# Altium integrated library NSC Switcher.IntLib: 889 symbols (part 21 of 23)
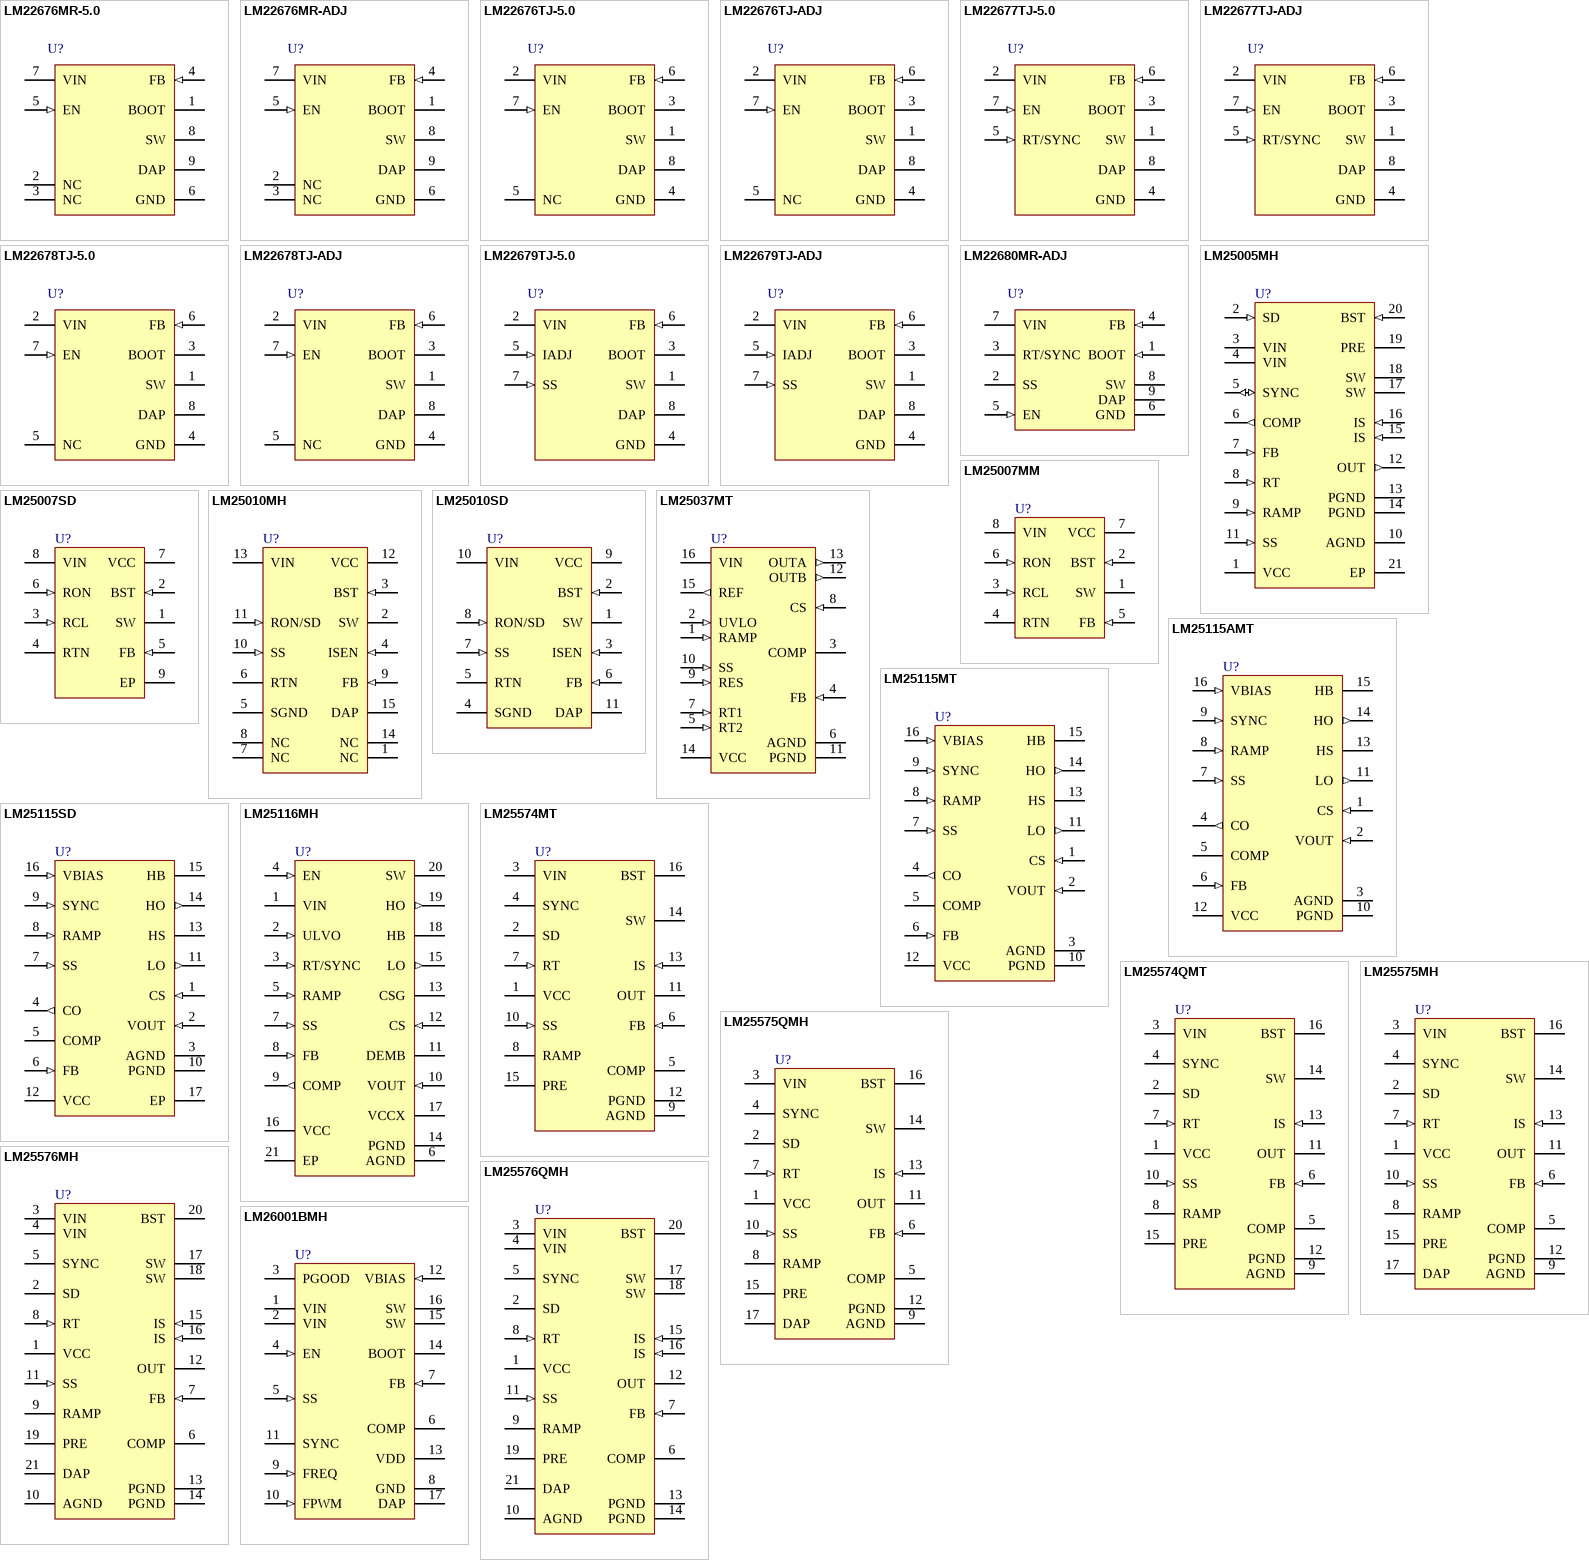
[diagram p47: symbols LM22676MR-5.0 to LM26001BMH]

## LM22676TJ-ADJ
designator U?
3A SIMPLE SWITCHER, Step-Down Voltage Regulator with Precision Enable; PartNumber: LM22676TJ-ADJ; Manufacturer: National Semiconductor; PackageTopMarking: NSUZXYTTE#*LM22676*TJ-ADJ; PowerWise: N; Published: 4-Dec-2008; DatasheetVersion: Oct-2008; PackageVersion: revC, Jan-2008; PackageReference: TJ7A; Publisher: Altium Limited; PackageDescription: Thin TO-263, Molded, 9.85 x 10.16 x 2mm Body, 7 Lead, 1.7mm Pitch, Surface Mount; CompType: Switcher; RoHS: Y; PinCount: 7; DigiKeyPartNumber: LM22676TJ-ADJ-ND; ComponentLink1Description: LM22676 Datasheet; ComponentLink1URL: http://www.national.com/ds/LM/LM22676.pdf; ComponentLink2Description: LM22676 Web Page; ComponentLink2URL: http://www.national.com/pf/LM/LM22676.html; ComponentLink3Description: TJ7A Package Drawing; ComponentLink3URL: http://www.national.com/packaging/folders/tj7a.html
footprint TJ7A_N (D2-PAK, 8-Leads, Body 9.9x10.2mm, Pitch 1.27mm, Lead Span 14mm, IPC Medium Density)
footprint TJ7A_L (D2-PAK, 8-Leads, Body 9.9x10.2mm, Pitch 1.27mm, Lead Span 14mm, IPC High Density)
footprint TJ7A_M (D2-PAK, 8-Leads, Body 9.9x10.2mm, Pitch 1.27mm, Lead Span 14mm, IPC Low Density)
pins: 1 SW (power), 2 VIN (power), 3 BOOT, 4 GND (power), 5 NC, 6 FB (in), 7 EN (in), 8 DAP (power)

## LM22677TJ-5.0
designator U?
5A SIMPLE SWITCHER, Step-Down Voltage Regulator with Synchronization or Adjustable Switching Frequency; PartNumber: LM22677TJ-5.0; Manufacturer: National Semiconductor; PackageTopMarking: NSUZXYTTE#*LM22677*TJ-5.0; PowerWise: N; Published: 4-Dec-2008; DatasheetVersion: Oct-2008; PackageVersion: revC, Jan-2008; PackageReference: TJ7A; Publisher: Altium Limited; PackageDescription: Thin TO-263, Molded, 9.85 x 10.16 x 2mm Body, 7 Lead, 1.7mm Pitch, Surface Mount; CompType: Switcher; RoHS: Y; PinCount: 7; DigiKeyPartNumber: LM22677TJ-5.0-ND; ComponentLink1Description: LM22677 Datasheet; ComponentLink1URL: http://www.national.com/ds/LM/LM22677.pdf; ComponentLink2Description: LM22677 Web Page; ComponentLink2URL: http://www.national.com/pf/LM/LM22677.html; ComponentLink3Description: TJ7A Package Drawing; ComponentLink3URL: http://www.national.com/packaging/folders/tj7a.html
footprint TJ7A_N (D2-PAK, 8-Leads, Body 9.9x10.2mm, Pitch 1.27mm, Lead Span 14mm, IPC Medium Density)
footprint TJ7A_L (D2-PAK, 8-Leads, Body 9.9x10.2mm, Pitch 1.27mm, Lead Span 14mm, IPC High Density)
footprint TJ7A_M (D2-PAK, 8-Leads, Body 9.9x10.2mm, Pitch 1.27mm, Lead Span 14mm, IPC Low Density)
pins: 1 SW (power), 2 VIN (power), 3 BOOT, 4 GND (power), 5 RT/SYNC (in), 6 FB (in), 7 EN (in), 8 DAP (power)

## LM22677TJ-ADJ
designator U?
5A SIMPLE SWITCHER, Step-Down Voltage Regulator with Synchronization or Adjustable Switching Frequency; PartNumber: LM22677TJ-ADJ; Manufacturer: National Semiconductor; PackageTopMarking: NSUZXYTTE#*LM22677*TJ-ADJ; PowerWise: N; Published: 4-Dec-2008; DatasheetVersion: Oct-2008; PackageVersion: revC, Jan-2008; PackageReference: TJ7A; Publisher: Altium Limited; PackageDescription: Thin TO-263, Molded, 9.85 x 10.16 x 2mm Body, 7 Lead, 1.7mm Pitch, Surface Mount; CompType: Switcher; RoHS: Y; PinCount: 7; DigiKeyPartNumber: LM22677TJ-ADJ-ND; ComponentLink1Description: LM22677 Datasheet; ComponentLink1URL: http://www.national.com/ds/LM/LM22677.pdf; ComponentLink2Description: LM22677 Web Page; ComponentLink2URL: http://www.national.com/pf/LM/LM22677.html; ComponentLink3Description: TJ7A Package Drawing; ComponentLink3URL: http://www.national.com/packaging/folders/tj7a.html
footprint TJ7A_N (D2-PAK, 8-Leads, Body 9.9x10.2mm, Pitch 1.27mm, Lead Span 14mm, IPC Medium Density)
footprint TJ7A_L (D2-PAK, 8-Leads, Body 9.9x10.2mm, Pitch 1.27mm, Lead Span 14mm, IPC High Density)
footprint TJ7A_M (D2-PAK, 8-Leads, Body 9.9x10.2mm, Pitch 1.27mm, Lead Span 14mm, IPC Low Density)
pins: 1 SW (power), 2 VIN (power), 3 BOOT, 4 GND (power), 5 RT/SYNC (in), 6 FB (in), 7 EN (in), 8 DAP (power)

## LM22678TJ-5.0
designator U?
5A SIMPLE SWITCHER, Step-Down Voltage Regulator with Precision Enable; PartNumber: LM22678TJ-5.0; Manufacturer: National Semiconductor; PackageTopMarking: NSUZXYTTE#*LM22678*TJ-5.0; PowerWise: N; Published: 4-Dec-2008; DatasheetVersion: Oct-2008; PackageVersion: revC, Jan-2008; PackageReference: TJ7A; Publisher: Altium Limited; PackageDescription: Thin TO-263, Molded, 9.85 x 10.16 x 2mm Body, 7 Lead, 1.7mm Pitch, Surface Mount; CompType: Switcher; RoHS: Y; PinCount: 7; DigiKeyPartNumber: LM22678TJ-5.0-ND; ComponentLink1Description: LM22678 Datasheet; ComponentLink1URL: http://www.national.com/ds/LM/LM22678.pdf; ComponentLink2Description: LM22678 Web Page; ComponentLink2URL: http://www.national.com/pf/LM/LM22678.html; ComponentLink3Description: TJ7A Package Drawing; ComponentLink3URL: http://www.national.com/packaging/folders/tj7a.html
footprint TJ7A_N (D2-PAK, 8-Leads, Body 9.9x10.2mm, Pitch 1.27mm, Lead Span 14mm, IPC Medium Density)
footprint TJ7A_L (D2-PAK, 8-Leads, Body 9.9x10.2mm, Pitch 1.27mm, Lead Span 14mm, IPC High Density)
footprint TJ7A_M (D2-PAK, 8-Leads, Body 9.9x10.2mm, Pitch 1.27mm, Lead Span 14mm, IPC Low Density)
pins: 1 SW (power), 2 VIN (power), 3 BOOT, 4 GND (power), 5 NC, 6 FB (in), 7 EN (in), 8 DAP (power)

## LM22678TJ-ADJ
designator U?
5A SIMPLE SWITCHER, Step-Down Voltage Regulator with Precision Enable; PartNumber: LM22678TJ-ADJ; Manufacturer: National Semiconductor; PackageTopMarking: NSUZXYTTE#*LM22678*TJ-ADJ; PowerWise: N; Published: 4-Dec-2008; DatasheetVersion: Oct-2008; PackageVersion: revC, Jan-2008; PackageReference: TJ7A; Publisher: Altium Limited; PackageDescription: Thin TO-263, Molded, 9.85 x 10.16 x 2mm Body, 7 Lead, 1.7mm Pitch, Surface Mount; CompType: Switcher; RoHS: Y; PinCount: 7; DigiKeyPartNumber: LM22678TJ-ADJ-ND; ComponentLink1Description: LM22678 Datasheet; ComponentLink1URL: http://www.national.com/ds/LM/LM22678.pdf; ComponentLink2Description: LM22678 Web Page; ComponentLink2URL: http://www.national.com/pf/LM/LM22678.html; ComponentLink3Description: TJ7A Package Drawing; ComponentLink3URL: http://www.national.com/packaging/folders/tj7a.html
footprint TJ7A_N (D2-PAK, 8-Leads, Body 9.9x10.2mm, Pitch 1.27mm, Lead Span 14mm, IPC Medium Density)
footprint TJ7A_L (D2-PAK, 8-Leads, Body 9.9x10.2mm, Pitch 1.27mm, Lead Span 14mm, IPC High Density)
footprint TJ7A_M (D2-PAK, 8-Leads, Body 9.9x10.2mm, Pitch 1.27mm, Lead Span 14mm, IPC Low Density)
pins: 1 SW (power), 2 VIN (power), 3 BOOT, 4 GND (power), 5 NC, 6 FB (in), 7 EN (in), 8 DAP (power)

## LM22679TJ-5.0
designator U?
5A SIMPLE SWITCHER, Step-Down Voltage Regulator with Adjustable Soft-Start and Current Limit; PartNumber: LM22679TJ-5.0; Manufacturer: National Semiconductor; PackageTopMarking: NSUZXYTTE#*LM22679*TJ-5.0; PowerWise: N; Published: 4-Dec-2008; DatasheetVersion: Oct-2008; PackageVersion: revC, Jan-2008; PackageReference: TJ7A; Publisher: Altium Limited; PackageDescription: Thin TO-263, Molded, 9.85 x 10.16 x 2mm Body, 7 Lead, 1.7mm Pitch, Surface Mount; CompType: Switcher; RoHS: Y; PinCount: 7; DigiKeyPartNumber: LM22679TJ-5.0-ND; ComponentLink1Description: LM22679 Datasheet; ComponentLink1URL: http://www.national.com/ds/LM/LM22679.pdf; ComponentLink2Description: LM22679 Web Page; ComponentLink2URL: http://www.national.com/pf/LM/LM22679.html; ComponentLink3Description: TJ7A Package Drawing; ComponentLink3URL: http://www.national.com/packaging/folders/tj7a.html
footprint TJ7A_N (D2-PAK, 8-Leads, Body 9.9x10.2mm, Pitch 1.27mm, Lead Span 14mm, IPC Medium Density)
footprint TJ7A_L (D2-PAK, 8-Leads, Body 9.9x10.2mm, Pitch 1.27mm, Lead Span 14mm, IPC High Density)
footprint TJ7A_M (D2-PAK, 8-Leads, Body 9.9x10.2mm, Pitch 1.27mm, Lead Span 14mm, IPC Low Density)
pins: 1 SW (power), 2 VIN (power), 3 BOOT, 4 GND (power), 5 IADJ (in), 6 FB (in), 7 SS (in), 8 DAP (power)

## LM22679TJ-ADJ
designator U?
5A SIMPLE SWITCHER, Step-Down Voltage Regulator with Adjustable Soft-Start and Current Limit; PartNumber: LM22679TJ-ADJ; Manufacturer: National Semiconductor; PackageTopMarking: NSUZXYTTE#*LM22679*TJ-ADJ; PowerWise: N; Published: 4-Dec-2008; DatasheetVersion: Oct-2008; PackageVersion: revC, Jan-2008; PackageReference: TJ7A; Publisher: Altium Limited; PackageDescription: Thin TO-263, Molded, 9.85 x 10.16 x 2mm Body, 7 Lead, 1.7mm Pitch, Surface Mount; CompType: Switcher; RoHS: Y; PinCount: 7; DigiKeyPartNumber: LM22679TJ-ADJ-ND; ComponentLink1Description: LM22679 Datasheet; ComponentLink1URL: http://www.national.com/ds/LM/LM22679.pdf; ComponentLink2Description: LM22679 Web Page; ComponentLink2URL: http://www.national.com/pf/LM/LM22679.html; ComponentLink3Description: TJ7A Package Drawing; ComponentLink3URL: http://www.national.com/packaging/folders/tj7a.html
footprint TJ7A_N (D2-PAK, 8-Leads, Body 9.9x10.2mm, Pitch 1.27mm, Lead Span 14mm, IPC Medium Density)
footprint TJ7A_L (D2-PAK, 8-Leads, Body 9.9x10.2mm, Pitch 1.27mm, Lead Span 14mm, IPC High Density)
footprint TJ7A_M (D2-PAK, 8-Leads, Body 9.9x10.2mm, Pitch 1.27mm, Lead Span 14mm, IPC Low Density)
pins: 1 SW (power), 2 VIN (power), 3 BOOT, 4 GND (power), 5 IADJ (in), 6 FB (in), 7 SS (in), 8 DAP (power)

## LM22680MR-ADJ
designator U?
2A SIMPLE SWITCHER®, Step-Down Voltage Regulator with Features; PartNumber: LM22680MR-ADJ; Manufacturer: National Semiconductor; PackageTopMarking: NSXYTT*L22680*-ADJ; PowerWise: N; Published: 29-May-2009; DatasheetVersion: Dec-2008; PackageVersion: revB, Dec-2007; PackageReference: MRA08B; Publisher: Altium Limited; PackageDescription: Molded, PSOP .193 x .154 x .058in, 8 Lead, .050in Pitch, Large DAP; CompType: Switcher; RoHS: Y; PinCount: 8; DigiKeyPartNumber: LM22680MR-ADJ-ND; Code_JEDEC: MS-012-AA; ComponentLink1Description: LM22680 Datasheet; ComponentLink1URL: http://www.national.com/ds/LM/LM22680.pdf; ComponentLink2Description: LM22680 Web Page; ComponentLink2URL: http://www.national.com/pf/LM/LM22680.html; ComponentLink3Description: MRA08B Package Page; ComponentLink3URL: http://www.national.com/packaging/folders/mra08b.html
footprint MRA08B_N (SOIC, 8-Leads, Body 4.9x3.9mm, Pitch 1.27mm, Exposed Pad, IPC Medium Density)
footprint MRA08B_L (SOIC, 8-Leads, Body 4.9x3.9mm, Pitch 1.27mm, Exposed Pad, IPC High Density)
footprint MRA08B_M (SOIC, 8-Leads, Body 4.9x3.9mm, Pitch 1.27mm, Exposed Pad, IPC Low Density)
pins: 1 BOOT (in), 2 SS, 3 RT/SYNC, 4 FB (in), 5 EN (in), 6 GND (power), 7 VIN (power), 8 SW, 9 DAP

## LM25005MH
designator U?
42V, 2.5A Step-Down Switching Regulator; PartNumber: LM25005MH; Manufacturer: National Semiconductor; CompType: Switcher; PackageTopMarking: NSUZXYTT*LM25005*MH; Published: 4-Dec-2008; DatasheetVersion: Mar-2006; PackageVersion: revC, Jul-2006; PackageReference: MXA20A; Publisher: Altium Limited; PackageDescription: Molded TSSOP, Jedec, 6.5 x 4.4 x 0.9mm Body, 20 Lead, 0.65mm Pitch, Exposed Pad; RoHS: Y; PinCount: 20; DigiKeyPartNumber: LM25005MH-ND; Code_JEDEC: MO-153-ACT; ComponentLink1Description: LM25005 Datasheet; ComponentLink1URL: http://www.national.com/ds/LM/LM25005.pdf; ComponentLink2Description: LM25005 Web Page; ComponentLink2URL: http://www.national.com/pf/LM/LM25005.html; ComponentLink3Description: MXA20A Package Drawing; ComponentLink3URL: http://www.national.com/packaging/folders/mxa20a.html
footprint MXA20A_N (TSOP, 20-Leads, Body 6.5x4.4mm, Pitch 0.65mm, Exposed Pad, IPC Medium Density)
footprint MXA20A_L (TSOP, 20-Leads, Body 6.5x4.4mm, Pitch 0.65mm, Exposed Pad, IPC High Density)
footprint MXA20A_M (TSOP, 20-Leads, Body 6.5x4.4mm, Pitch 0.65mm, Exposed Pad, IPC Low Density)
pins: 1 VCC (power), 2 SD (in), 3 VIN (power), 4 VIN (power), 5 SYNC (io), 6 COMP (out), 7 FB (in), 8 RT (in), 9 RAMP (in), 10 AGND (power), 11 SS (in), 12 OUT (out), 13 PGND (power), 14 PGND (power), 15 IS (in), 16 IS (in), 17 SW (power), 18 SW (power), 19 PRE (oc), 20 BST (in), 21 EP (power)

## LM25007MM
designator U?
42V, 0.5A Step-Down Switching Regulator; PartNumber: LM25007MM; Manufacturer: National Semiconductor; CompType: Switcher; PackageTopMarking: ZXTT*SLYB; Published: 4-Dec-2008; DatasheetVersion: Feb-2008; PackageVersion: revF, Apr-2008; PackageReference: MUA08A; Publisher: Altium Limited; PackageDescription: MINI SOIC, .118 x .118 x .034in, 8 Lead, .0256in Pitch; RoHS: Y; PinCount: 8; DigiKeyPartNumber: LM25007MMCT-ND; Code_JEDEC: MO-187-AA; ComponentLink1Description: LM25007 Datasheet; ComponentLink1URL: http://www.national.com/ds/LM/LM25007.pdf; ComponentLink2Description: LM25007 Web Page; ComponentLink2URL: http://www.national.com/pf/LM/LM25007.html; ComponentLink3Description: MUA08A Package Drawing; ComponentLink3URL: http://www.national.com/packaging/folders/mua08a.html
footprint MUA08A_N (TSOP, 8-Leads, Body 3x3mm, Pitch 0.65mm, IPC Medium Density)
footprint MUA08A_L (TSOP, 8-Leads, Body 3x3mm, Pitch 0.65mm, IPC High Density)
footprint MUA08A_M (TSOP, 8-Leads, Body 3x3mm, Pitch 0.65mm, IPC Low Density)
pins: 1 SW (power), 2 BST (in), 3 RCL (in), 4 RTN (power), 5 FB (in), 6 RON (in), 7 VCC (power), 8 VIN (power)

## LM25007SD
designator U?
42V, 0.5A Step-Down Switching Regulator; PartNumber: LM25007SD; Manufacturer: National Semiconductor; CompType: Switcher; PackageTopMarking: NS*UZXYTT*25007SD; Published: 4-Dec-2008; DatasheetVersion: Feb-2008; PackageVersion: revA, Jun-2003; PackageReference: SDC08A; Publisher: Altium Limited; PackageDescription: LLP, Plastic, Dual, 4 x 4 x 0.8mm Body, 8 Lead, 0.8mm Pitch, No Pullback; RoHS: Y; PinCount: 8; DigiKeyPartNumber: LM25007SDCT-ND; ComponentLink1Description: LM25007 Datasheet; ComponentLink1URL: http://www.national.com/ds/LM/LM25007.pdf; ComponentLink2Description: LM25007 Web Page; ComponentLink2URL: http://www.national.com/pf/LM/LM25007.html; ComponentLink3Description: SDC08A Package Drawing; ComponentLink3URL: http://www.national.com/packaging/folders/sdc08a.html
footprint SDC08A (SON, 8-Leads, Body 4x4mm, Pitch 0.8mm, NSC Recommended)
pins: 1 SW (power), 2 BST (in), 3 RCL (in), 4 RTN (power), 5 FB (in), 6 RON (in), 7 VCC (power), 8 VIN (power), 9 EP (power)

## LM25010MH
designator U?
42V, 1.0A Step-Down Switching Regulator; PartNumber: LM25010MH; Manufacturer: National Semiconductor; CompType: Switcher; PackageTopMarking: NSUZXYTT*L25010*MH; Published: 4-Dec-2008; DatasheetVersion: Feb-2006; PackageVersion: revA, Feb-2003; PackageReference: MXA14A; Publisher: Altium Limited; PackageDescription: Molded TSSOP, JEDEC, Exposed Pad, 5.0 x 4.4 x 0.9mm Body, 14 Lead, 0.65mm Pitch; RoHS: Y; PinCount: 14; DigiKeyPartNumber: LM25010MH-ND; Code_JEDEC: MO-153-ABT-1; ComponentLink1Description: LM25010 Datasheet; ComponentLink1URL: http://www.national.com/ds/LM/LM25010.pdf; ComponentLink2Description: LM25010 Web Page; ComponentLink2URL: http://www.national.com/pf/LM/LM25010.html; ComponentLink3Description: MXA14A Package Drawing; ComponentLink3URL: http://www.national.com/packaging/folders/mxa14a.html
footprint MXA14A_N (TSOP, 14-Leads, Body 5x4.4mm, Pitch 0.65mm, Exposed Pad, IPC Medium Density)
footprint MXA14A_L (TSOP, 14-Leads, Body 5x4.4mm, Pitch 0.65mm, Exposed Pad, IPC High Density)
footprint MXA14A_M (TSOP, 14-Leads, Body 5x4.4mm, Pitch 0.65mm, Exposed Pad, IPC Low Density)
pins: 1 NC, 2 SW (power), 3 BST (in), 4 ISEN (in), 5 SGND (power), 6 RTN (power), 7 NC, 8 NC, 9 FB (in), 10 SS (in), 11 RON/SD (in), 12 VCC (power), 13 VIN (power), 14 NC, 15 DAP (power)

## LM25010SD
designator U?
42V, 1.0A Step-Down Switching Regulator; PartNumber: LM25010SD; Manufacturer: National Semiconductor; CompType: Switcher; PackageTopMarking: NS*UZXYTT*25010SD; Published: 4-Dec-2008; DatasheetVersion: Feb-2006; PackageVersion: revA, May-2003; PackageReference: SDC10A; Publisher: Altium Limited; PackageDescription: LLP, Plastic, Dual, 4 x 4 x 0.8mm Body, 10 Lead, 0.8mm Pitch, No Pullback; RoHS: Y; PinCount: 10; DigiKeyPartNumber: LM25010SDCT-ND; ComponentLink1Description: LM25010 Datasheet; ComponentLink1URL: http://www.national.com/ds/LM/LM25010.pdf; ComponentLink2Description: LM25010 Web Page; ComponentLink2URL: http://www.national.com/pf/LM/LM25010.html; ComponentLink3Description: SDC10A Package Drawing; ComponentLink3URL: http://www.national.com/packaging/folders/sdc10a.html
footprint SDC10A (SON, 10-Leads, Body 4x4 mm, Pitch 0.8mm, NSC Recommended)
pins: 1 SW (power), 2 BST (in), 3 ISEN (in), 4 SGND (power), 5 RTN (power), 6 FB (in), 7 SS (in), 8 RON/SD (in), 9 VCC (power), 10 VIN (power), 11 DAP (power)

## LM25037MT
designator U?
Dual-Mode PWM Controller With Alternating Outputs; PartNumber: LM25037MT; Manufacturer: National Semiconductor; CompType: Switcher; PackageTopMarking: NSUZXYTT*L25037*MT; Published: 4-Dec-2008; DatasheetVersion: Jul-2008; PackageVersion: revD, Jun-2003; PackageReference: MTC16; Publisher: Altium Limited; PackageDescription: Molded TSSOP, Jedec, 5 x 4.4 x 0.9mm Body, 16 Lead, 0.65mm Pitch; RoHS: Y; PinCount: 16; DigiKeyPartNumber: LM25037MT-ND; Code_JEDEC: MO-153-AB; ComponentLink1Description: LM25037 Datasheet; ComponentLink1URL: http://www.national.com/ds/LM/LM25037.pdf; ComponentLink2Description: LM25037 Web Page; ComponentLink2URL: http://www.national.com/pf/LM/LM25037.html; ComponentLink3Description: MTC16 Package Drawing; ComponentLink3URL: http://www.national.com/packaging/folders/mtc16.html
footprint MTC16_N (TSOP, 16-Leads, Body 5x4.4mm, Pitch 0.65mm, IPC Medium Density)
footprint MTC16_L (TSOP, 16-Leads, Body 5x4.4mm, Pitch 0.65mm, IPC High Density)
footprint MTC16_M (TSOP, 16-Leads, Body 5x4.4mm, Pitch 0.65mm, IPC Low Density)
pins: 1 RAMP (in), 2 UVLO (in), 3 COMP, 4 FB (in), 5 RT2 (in), 6 AGND (power), 7 RT1 (in), 8 CS (in), 9 RES (in), 10 SS (in), 11 PGND (power), 12 OUTB (out), 13 OUTA (out), 14 VCC (power), 15 REF (out), 16 VIN (power)

## LM25115AMT
designator U?
Secondary Side Post Regulator/DC-DC Converter with Power-Up/Power-Down Tracking; PartNumber: LM25115AMT; Manufacturer: National Semiconductor; CompType: Switcher; PackageTopMarking: NSUZXYTT*L25115*AMT; Published: 4-Dec-2008; DatasheetVersion: Nov-2005; PackageVersion: revD, Jun-2003; PackageReference: MTC16; Publisher: Altium Limited; PackageDescription: Molded TSSOP, Jedec, 5 x 4.4 x 0.9mm Body, 16 Lead, 0.65mm Pitch; RoHS: Y; PinCount: 16; DigiKeyPartNumber: LM25115AMT-ND; Code_JEDEC: MO-153-AB; ComponentLink1Description: LM25115A Datasheet; ComponentLink1URL: http://www.national.com/ds/LM/LM25115A.pdf; ComponentLink2Description: LM25115A Web Page; ComponentLink2URL: http://www.national.com/pf/LM/LM25115A.html; ComponentLink3Description: MTC16 Package Drawing; ComponentLink3URL: http://www.national.com/packaging/folders/mtc16.html
footprint MTC16_N (TSOP, 16-Leads, Body 5x4.4mm, Pitch 0.65mm, IPC Medium Density)
footprint MTC16_L (TSOP, 16-Leads, Body 5x4.4mm, Pitch 0.65mm, IPC High Density)
footprint MTC16_M (TSOP, 16-Leads, Body 5x4.4mm, Pitch 0.65mm, IPC Low Density)
pins: 1 CS (in), 2 VOUT (in), 3 AGND (power), 4 CO (out), 5 COMP, 6 FB (in), 7 SS (in), 8 RAMP (in), 9 SYNC (in), 10 PGND (power), 11 LO (out), 12 VCC (power), 13 HS, 14 HO (out), 15 HB, 16 VBIAS (in)

## LM25115MT
designator U?
Secondary Side Post Regulator Controller; PartNumber: LM25115MT; Manufacturer: National Semiconductor; CompType: Switcher; PackageTopMarking: NSUZXYTT*L25115*MT; Published: 4-Dec-2008; DatasheetVersion: Nov-2005; PackageVersion: revD, Jun-2003; PackageReference: MTC16; Publisher: Altium Limited; PackageDescription: Molded TSSOP, Jedec, 5 x 4.4 x 0.9mm Body, 16 Lead, 0.65mm Pitch; RoHS: Y; PinCount: 16; DigiKeyPartNumber: LM25115MT-ND; Code_JEDEC: MO-153-AB; ComponentLink1Description: LM25115 Datasheet; ComponentLink1URL: http://www.national.com/ds/LM/LM25115.pdf; ComponentLink2Description: LM25115 Web Page; ComponentLink2URL: http://www.national.com/pf/LM/LM25115.html; ComponentLink3Description: MTC16 Package Drawing; ComponentLink3URL: http://www.national.com/packaging/folders/mtc16.html
footprint MTC16_N (TSOP, 16-Leads, Body 5x4.4mm, Pitch 0.65mm, IPC Medium Density)
footprint MTC16_L (TSOP, 16-Leads, Body 5x4.4mm, Pitch 0.65mm, IPC High Density)
footprint MTC16_M (TSOP, 16-Leads, Body 5x4.4mm, Pitch 0.65mm, IPC Low Density)
pins: 1 CS (in), 2 VOUT (in), 3 AGND (power), 4 CO (out), 5 COMP, 6 FB (in), 7 SS (in), 8 RAMP (in), 9 SYNC (in), 10 PGND (power), 11 LO (out), 12 VCC (power), 13 HS, 14 HO (out), 15 HB, 16 VBIAS (in)

## LM25115SD
designator U?
Secondary Side Post Regulator Controller; PartNumber: LM25115SD; Manufacturer: National Semiconductor; CompType: Switcher; PackageTopMarking: NS*UZXYTT*L25115; Published: 4-Dec-2008; DatasheetVersion: Nov-2005; PackageVersion: revA, May-2003; PackageReference: SDA16A; Publisher: Altium Limited; PackageDescription: LLP, Plastic, Dual, 5 x 5 x 0.8mm Body,16 Lead, 0.5mm Pitch, No Pullback; RoHS: Y; PinCount: 16; DigiKeyPartNumber: LM25115SDCT-ND; ComponentLink1Description: LM25115 Datasheet; ComponentLink1URL: http://www.national.com/ds/LM/LM25115.pdf; ComponentLink2Description: LM25115 Web Page; ComponentLink2URL: http://www.national.com/pf/LM/LM25115.html; ComponentLink3Description: SDA16A Package Drawing; ComponentLink3URL: http://www.national.com/packaging/folders/sda16a.html
footprint SDA16A (SON, 16-Leads, Body 5x5mm, Pitch 0.5mm, NSC Recommended)
pins: 1 CS (in), 2 VOUT (in), 3 AGND (power), 4 CO (out), 5 COMP, 6 FB (in), 7 SS (in), 8 RAMP (in), 9 SYNC (in), 10 PGND (power), 11 LO (out), 12 VCC (power), 13 HS, 14 HO (out), 15 HB, 16 VBIAS (in), 17 EP (power)

## LM25116MH
designator U?
Wide Range Synchronous Buck Controller; PartNumber: LM25116MH; Manufacturer: National Semiconductor; CompType: Switcher; PackageTopMarking: NSUZXYTT*LM25116*MH; Published: 4-Dec-2008; DatasheetVersion: Apr-2007; PackageVersion: revC, Jul-2006; PackageReference: MXA20A; Publisher: Altium Limited; PackageDescription: Molded TSSOP, Jedec, 6.5 x 4.4 x 0.9mm Body, 20 Lead, 0.65mm Pitch, Exposed Pad; RoHS: Y; PinCount: 20; DigiKeyPartNumber: LM25116MH-ND; Code_JEDEC: MO-153-ACT; ComponentLink1Description: LM25116 Datasheet; ComponentLink1URL: http://www.national.com/ds/LM/LM25116.pdf; ComponentLink2Description: LM25116 Web Page; ComponentLink2URL: http://www.national.com/pf/LM/LM25116.html; ComponentLink3Description: MXA20A Package Drawing; ComponentLink3URL: http://www.national.com/packaging/folders/mxa20a.html
footprint MXA20A_N (TSOP, 20-Leads, Body 6.5x4.4mm, Pitch 0.65mm, Exposed Pad, IPC Medium Density)
footprint MXA20A_L (TSOP, 20-Leads, Body 6.5x4.4mm, Pitch 0.65mm, Exposed Pad, IPC High Density)
footprint MXA20A_M (TSOP, 20-Leads, Body 6.5x4.4mm, Pitch 0.65mm, Exposed Pad, IPC Low Density)
pins: 1 VIN (power), 2 ULVO (in), 3 RT/SYNC (in), 4 EN (in), 5 RAMP (in), 6 AGND (power), 7 SS (in), 8 FB (in), 9 COMP (out), 10 VOUT (in), 11 DEMB, 12 CS (in), 13 CSG, 14 PGND (power), 15 LO (out), 16 VCC (power), 17 VCCX (power), 18 HB, 19 HO (out), 20 SW (power), 21 EP (power)

## LM25574MT
designator U?
SIMPLE SWITCHER 42V, 0.5A Step-Down Switching Regulator; PartNumber: LM25574MT; Manufacturer: National Semiconductor; PackageTopMarking: NSUZXYTT*L25574*MT; PowerWise: Y; Published: 4-Dec-2008; DatasheetVersion: Mar-2009; PackageVersion: revD, Jun-2003; PackageReference: MTC16; Publisher: Altium Limited; PackageDescription: Molded TSSOP, Jedec, 5 x 4.4 x 0.9mm Body, 16 Lead, 0.65mm Pitch; CompType: Switcher; RoHS: Y; PinCount: 16; DigiKeyPartNumber: LM25574MT-ND; Code_JEDEC: MO-153-AB; ComponentLink1Description: LM25574 Datasheet; ComponentLink1URL: http://www.national.com/ds/LM/LM25574.pdf; ComponentLink2Description: LM25574 Web Page; ComponentLink2URL: http://www.national.com/pf/LM/LM25574.html; ComponentLink3Description: MTC16 Package Page; ComponentLink3URL: http://www.national.com/packaging/folders/mtc16.html
footprint MTC16_N (TSOP, 16-Leads, Body 5x4.4mm, Pitch 0.65mm, IPC Medium Density)
footprint MTC16_L (TSOP, 16-Leads, Body 5x4.4mm, Pitch 0.65mm, IPC High Density)
footprint MTC16_M (TSOP, 16-Leads, Body 5x4.4mm, Pitch 0.65mm, IPC Low Density)
pins: 1 VCC (power), 2 SD, 3 VIN (power), 4 SYNC, 5 COMP, 6 FB (in), 7 RT (in), 8 RAMP, 9 AGND (power), 10 SS (in), 11 OUT (power), 12 PGND (power), 13 IS (in), 14 SW (power), 15 PRE (oc), 16 BST

## LM25574QMT
designator U?
SIMPLE SWITCHER® 42V, 0.5A Step-Down Switching Regulator; PartNumber: LM25574QMT; Manufacturer: National Semiconductor; PackageTopMarking: NSUZXYTT*L25574*QMT; PowerWise: N; Published: 29-May-2009; DatasheetVersion: Mar-2009; PackageVersion: revD, Jun-2003; PackageReference: MTC16; Publisher: Altium Limited; PackageDescription: Molded TSSOP, Jedec, 5 x 4.4 x 0.9mm Body, 16 Lead, 0.65mm Pitch; CompType: Switcher; RoHS: Y; PinCount: 16; Code_JEDEC: MO-153-AB; ComponentLink1Description: LM25574 Datasheet; ComponentLink1URL: http://www.national.com/ds/LM/LM25574.pdf; ComponentLink2Description: LM25574 Web Page; ComponentLink2URL: http://www.national.com/pf/LM/LM25574.html; ComponentLink3Description: MTC16 Package Page; ComponentLink3URL: http://www.national.com/packaging/folders/mtc16.html
footprint MTC16_N (TSOP, 16-Leads, Body 5x4.4mm, Pitch 0.65mm, IPC Medium Density)
footprint MTC16_L (TSOP, 16-Leads, Body 5x4.4mm, Pitch 0.65mm, IPC High Density)
footprint MTC16_M (TSOP, 16-Leads, Body 5x4.4mm, Pitch 0.65mm, IPC Low Density)
pins: 1 VCC (power), 2 SD, 3 VIN (power), 4 SYNC, 5 COMP, 6 FB (in), 7 RT (in), 8 RAMP, 9 AGND (power), 10 SS (in), 11 OUT (power), 12 PGND (power), 13 IS (in), 14 SW (power), 15 PRE (oc), 16 BST

## LM25575MH
designator U?
SIMPLE SWITCHER 42V, 1.5A Step-Down Switching Regulator; PartNumber: LM25575MH; Manufacturer: National Semiconductor; PackageTopMarking: NSUZXYTT*L25575*MH; PowerWise: Y; Published: 4-Dec-2008; DatasheetVersion: Mar-2009; PackageVersion: revA, Apr-2003; PackageReference: MXA16A; Publisher: Altium Limited; PackageDescription: Molded TSSOP, Jedec, Exposed Pad, 5.0 x 4.4 x 0.9mm Body,16 Lead, 0.65mm Pitch; CompType: Switcher; RoHS: O; PinCount: 16; DigiKeyPartNumber: LM25575MH-ND; Code_JEDEC: MO-153-ABT; ComponentLink1Description: LM25575 Datasheet; ComponentLink1URL: http://www.national.com/ds/LM/LM25575.pdf; ComponentLink2Description: LM25575 Web Page; ComponentLink2URL: http://www.national.com/pf/LM/LM25575.html; ComponentLink3Description: MXA16A Package Page; ComponentLink3URL: http://www.national.com/packaging/folders/mxa16a.html
footprint MXA16A_N (TSOP, 16-Leads, Body 5x4.4mm, Pitch 0.65mm, Exposed Pad, IPC Medium Density)
footprint MXA16A_L (TSOP, 16-Leads, Body 5x4.4mm, Pitch 0.65mm, Exposed Pad, IPC High Density)
footprint MXA16A_M (TSOP, 16-Leads, Body 5x4.4mm, Pitch 0.65mm, Exposed Pad, IPC Low Density)
pins: 1 VCC (power), 2 SD, 3 VIN (power), 4 SYNC, 5 COMP, 6 FB (in), 7 RT (in), 8 RAMP, 9 AGND (power), 10 SS (in), 11 OUT (power), 12 PGND (power), 13 IS (in), 14 SW (power), 15 PRE (oc), 16 BST, 17 DAP (power)

## LM25575QMH
designator U?
SIMPLE SWITCHER® 42V, 1.5A Step-Down Switching Regulator; PartNumber: LM25575QMH; Manufacturer: National Semiconductor; PackageTopMarking: NSUZXYTT*L25575*QMH; PowerWise: N; Published: 29-May-2009; DatasheetVersion: Mar-2009; PackageVersion: revA, Apr-2003; PackageReference: MXA16A; Publisher: Altium Limited; PackageDescription: Molded TSSOP, Jedec, Exposed Pad, 5.0 x 4.4 x 0.9mm Body,16 Lead, 0.65mm Pitch; CompType: Switcher; RoHS: Y; PinCount: 16; Code_JEDEC: MO-153-ABT; ComponentLink1Description: LM25575 Datasheet; ComponentLink1URL: http://www.national.com/ds/LM/LM25575.pdf; ComponentLink2Description: LM25575 Web Page; ComponentLink2URL: http://www.national.com/pf/LM/LM25575.html; ComponentLink3Description: MXA16A Package Page; ComponentLink3URL: http://www.national.com/packaging/folders/mxa16a.html
footprint MXA16A_N (TSOP, 16-Leads, Body 5x4.4mm, Pitch 0.65mm, Exposed Pad, IPC Medium Density)
footprint MXA16A_L (TSOP, 16-Leads, Body 5x4.4mm, Pitch 0.65mm, Exposed Pad, IPC High Density)
footprint MXA16A_M (TSOP, 16-Leads, Body 5x4.4mm, Pitch 0.65mm, Exposed Pad, IPC Low Density)
pins: 1 VCC (power), 2 SD, 3 VIN (power), 4 SYNC, 5 COMP, 6 FB (in), 7 RT (in), 8 RAMP, 9 AGND (power), 10 SS (in), 11 OUT (power), 12 PGND (power), 13 IS (in), 14 SW (power), 15 PRE (oc), 16 BST, 17 DAP (power)

## LM25576MH
designator U?
SIMPLE SWITCHER 42V, 3A Step-Down Switching Regulator; PartNumber: LM25576MH; Manufacturer: National Semiconductor; PackageTopMarking: NSUZXYTT*LM25576*MH; PowerWise: Y; Published: 4-Dec-2008; DatasheetVersion: Mar-2009; PackageVersion: revC, Jul-2006; PackageReference: MXA20A; Publisher: Altium Limited; PackageDescription: Molded TSSOP, Jedec, 6.5 x 4.4 x 0.9mm Body, 20 Lead, 0.65mm Pitch, Exposed Pad; CompType: Switcher; RoHS: O; PinCount: 20; DigiKeyPartNumber: LM25576MH-ND; Code_JEDEC: MO-153-ACT; ComponentLink1Description: LM25576 Datasheet; ComponentLink1URL: http://www.national.com/ds/LM/LM25576.pdf; ComponentLink2Description: LM25576 Web Page; ComponentLink2URL: http://www.national.com/pf/LM/LM25576.html; ComponentLink3Description: MXA20A Package Page; ComponentLink3URL: http://www.national.com/packaging/folders/mxa20a.html
footprint MXA20A_N (TSOP, 20-Leads, Body 6.5x4.4mm, Pitch 0.65mm, Exposed Pad, IPC Medium Density)
footprint MXA20A_L (TSOP, 20-Leads, Body 6.5x4.4mm, Pitch 0.65mm, Exposed Pad, IPC High Density)
footprint MXA20A_M (TSOP, 20-Leads, Body 6.5x4.4mm, Pitch 0.65mm, Exposed Pad, IPC Low Density)
pins: 1 VCC (power), 2 SD, 3 VIN (power), 4 VIN (power), 5 SYNC, 6 COMP, 7 FB (in), 8 RT (in), 9 RAMP, 10 AGND (power), 11 SS (in), 12 OUT (power), 13 PGND (power), 14 PGND (power), 15 IS (in), 16 IS (in), 17 SW (power), 18 SW (power), 19 PRE (oc), 20 BST, 21 DAP (power)

## LM25576QMH
designator U?
SIMPLE SWITCHER® 42V, 3A Step-Down Switching Regulator; PartNumber: LM25576QMH; Manufacturer: National Semiconductor; PackageTopMarking: NSUZXYTT*LM25576*QMH; PowerWise: N; Published: 29-May-2009; DatasheetVersion: Mar-2009; PackageVersion: revC, Jul-2006; PackageReference: MXA20A; Publisher: Altium Limited; PackageDescription: Molded TSSOP, Jedec, 6.5 x 4.4 x 0.9mm Body, 20 Lead, 0.65mm Pitch, Exposed Pad; CompType: Switcher; RoHS: Y; PinCount: 20; Code_JEDEC: MO-153-ACT; ComponentLink1Description: LM25576 Datasheet; ComponentLink1URL: http://www.national.com/ds/LM/LM25576.pdf; ComponentLink2Description: LM25576 Web Page; ComponentLink2URL: http://www.national.com/pf/LM/LM25576.html; ComponentLink3Description: MXA20A Package Page; ComponentLink3URL: http://www.national.com/packaging/folders/mxa20a.html
footprint MXA20A_N (TSOP, 20-Leads, Body 6.5x4.4mm, Pitch 0.65mm, Exposed Pad, IPC Medium Density)
footprint MXA20A_L (TSOP, 20-Leads, Body 6.5x4.4mm, Pitch 0.65mm, Exposed Pad, IPC High Density)
footprint MXA20A_M (TSOP, 20-Leads, Body 6.5x4.4mm, Pitch 0.65mm, Exposed Pad, IPC Low Density)
pins: 1 VCC (power), 2 SD, 3 VIN (power), 4 VIN (power), 5 SYNC, 6 COMP, 7 FB (in), 8 RT (in), 9 RAMP, 10 AGND (power), 11 SS (in), 12 OUT (power), 13 PGND (power), 14 PGND (power), 15 IS (in), 16 IS (in), 17 SW (power), 18 SW (power), 19 PRE (oc), 20 BST, 21 DAP (power)

## LM26001BMH
designator U?
1.5A Switching Regulator with High Efficiency Sleep Mode; PartNumber: LM26001BMH; Manufacturer: National Semiconductor; CompType: Switcher; PackageTopMarking: NSUZXYTT*L26001*BMH; PowerWise: Y; Published: 4-Dec-2008; DatasheetVersion: May-2008; PackageVersion: revA, Apr-2003; PackageReference: MXA16A; Publisher: Altium Limited; PackageDescription: Molded TSSOP, Jedec, Exposed Pad, 5.0 x 4.4 x 0.9mm Body,16 Lead, 0.65mm Pitch; RoHS: Y; PinCount: 16; DigiKeyPartNumber: LM26001BMH-ND; Code_JEDEC: MO-153-ABT; ComponentLink1Description: LM26001B Datasheet; ComponentLink1URL: http://www.national.com/ds/LM/LM26001B.pdf; ComponentLink2Description: LM26001B Web Page; ComponentLink2URL: http://www.national.com/pf/LM/LM26001B.html; ComponentLink3Description: MXA16A Package Page; ComponentLink3URL: http://www.national.com/packaging/folders/mxa16a.html
footprint MXA16A_N (TSOP, 16-Leads, Body 5x4.4mm, Pitch 0.65mm, Exposed Pad, IPC Medium Density)
footprint MXA16A_L (TSOP, 16-Leads, Body 5x4.4mm, Pitch 0.65mm, Exposed Pad, IPC High Density)
footprint MXA16A_M (TSOP, 16-Leads, Body 5x4.4mm, Pitch 0.65mm, Exposed Pad, IPC Low Density)
pins: 1 VIN (power), 2 VIN (power), 3 PGOOD (oc), 4 EN (in), 5 SS (in), 6 COMP, 7 FB (in), 8 GND (power), 9 FREQ (in), 10 FPWM (in), 11 SYNC, 12 VBIAS (in), 13 VDD (power), 14 BOOT, 15 SW (power), 16 SW (power), 17 DAP (power)

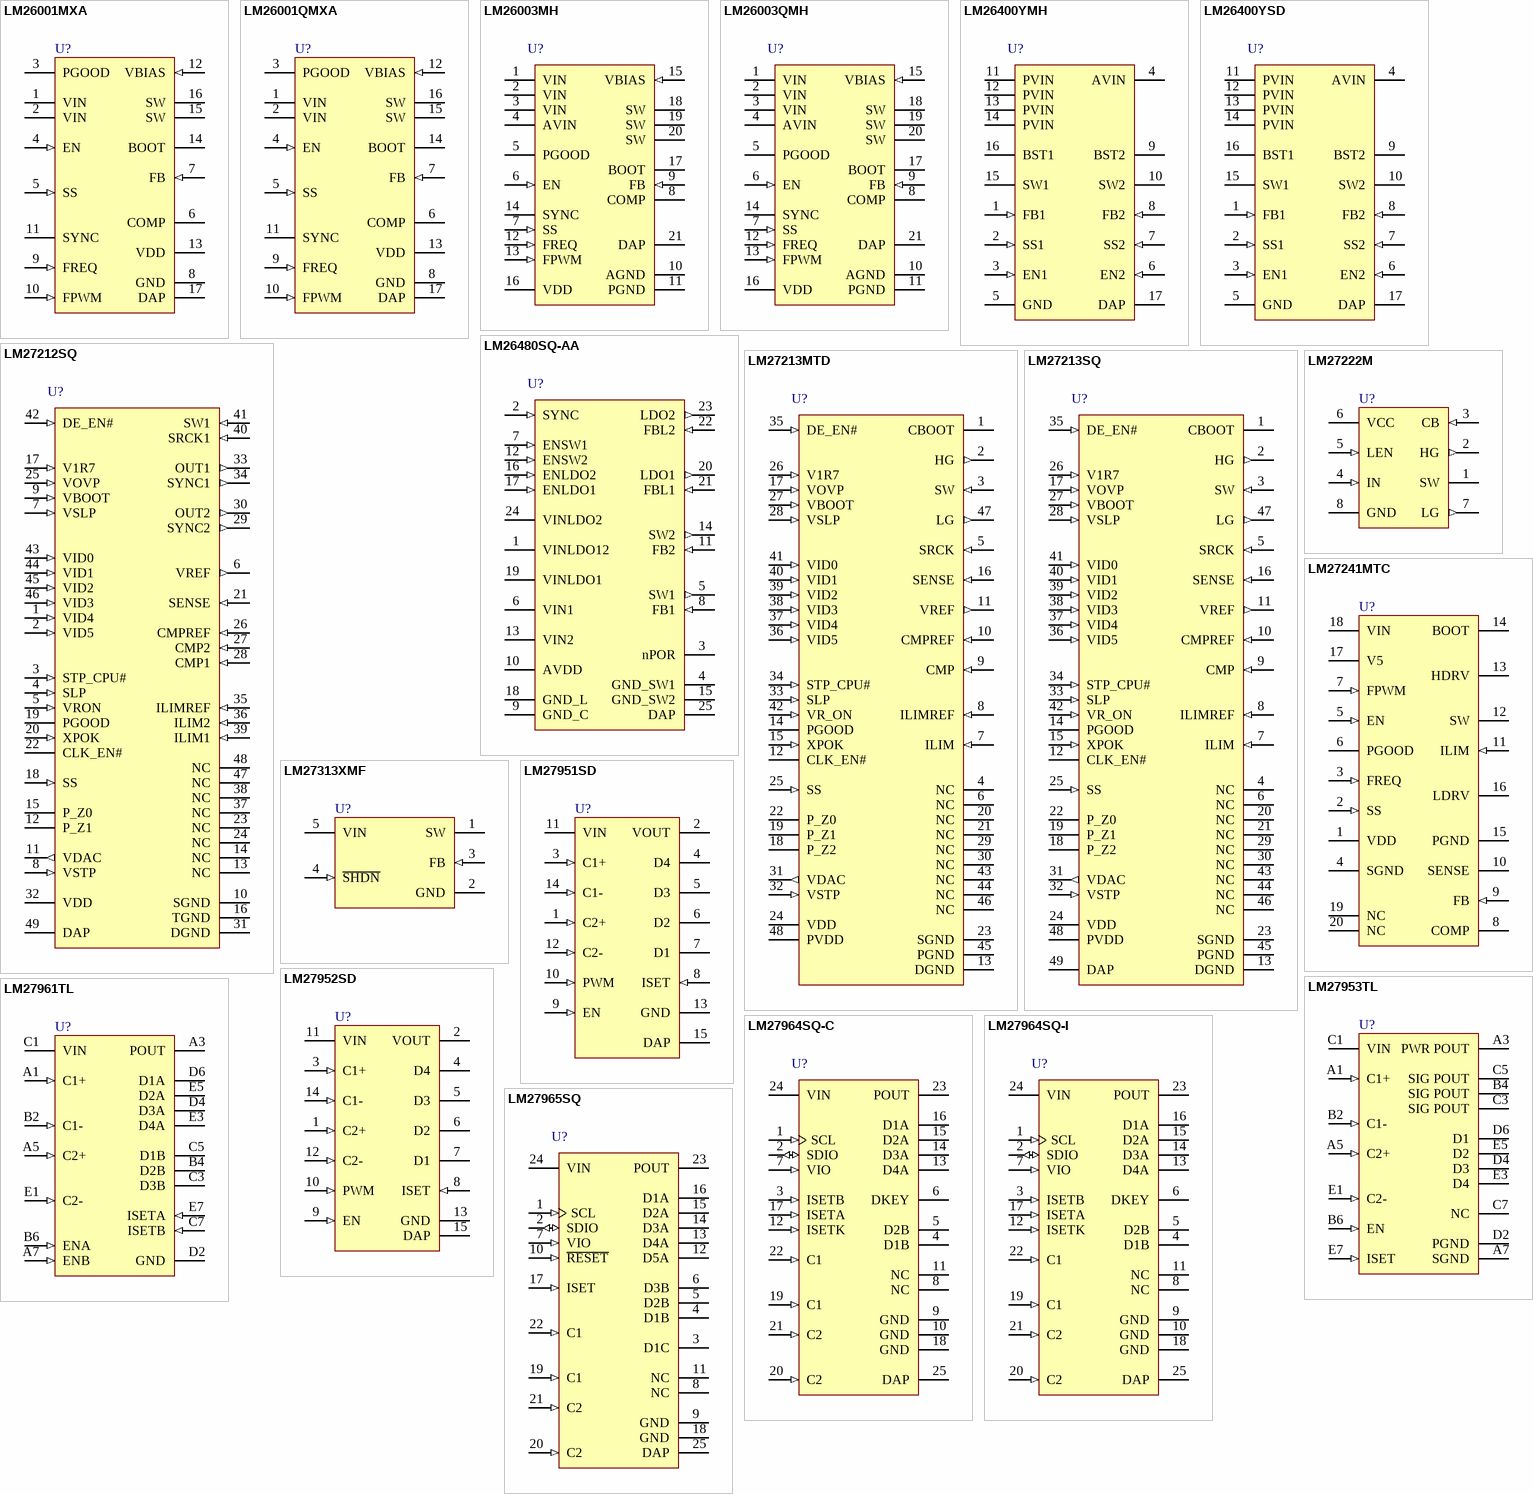
[diagram p25: symbols LM26001MXA to LM27965SQ]

## LM26001MXA
designator U?
1.5A Switching Regulator with High Efficiency Sleep Mode; PartNumber: LM26001MXA; Manufacturer: National Semiconductor; CompType: Switcher; PackageTopMarking: NSUZXYTT*L26001*MXA; PowerWise: Y; Published: 4-Dec-2008; DatasheetVersion: Apr-2009; PackageVersion: revA, Apr-2003; PackageReference: MXA16A; Publisher: Altium Limited; PackageDescription: Molded TSSOP, Jedec, Exposed Pad, 5.0 x 4.4 x 0.9mm Body,16 Lead, 0.65mm Pitch; RoHS: Y; PinCount: 16; DigiKeyPartNumber: LM26001MXA-ND; Code_JEDEC: MO-153-ABT; ComponentLink1Description: LM26001 Datasheet; ComponentLink1URL: http://www.national.com/ds/LM/LM26001.pdf; ComponentLink2Description: LM26001 Web Page; ComponentLink2URL: http://www.national.com/pf/LM/LM26001.html; ComponentLink3Description: MXA16A Package Page; ComponentLink3URL: http://www.national.com/packaging/folders/mxa16a.html
footprint MXA16A_N (TSOP, 16-Leads, Body 5x4.4mm, Pitch 0.65mm, Exposed Pad, IPC Medium Density)
footprint MXA16A_L (TSOP, 16-Leads, Body 5x4.4mm, Pitch 0.65mm, Exposed Pad, IPC High Density)
footprint MXA16A_M (TSOP, 16-Leads, Body 5x4.4mm, Pitch 0.65mm, Exposed Pad, IPC Low Density)
pins: 1 VIN (power), 2 VIN (power), 3 PGOOD (oc), 4 EN (in), 5 SS (in), 6 COMP, 7 FB (in), 8 GND (power), 9 FREQ (in), 10 FPWM (in), 11 SYNC, 12 VBIAS (in), 13 VDD (power), 14 BOOT, 15 SW (power), 16 SW (power), 17 DAP (power)

## LM26001QMXA
designator U?
1.5A Switching Regulator with High Efficiency Sleep Mode; PartNumber: LM26001QMXA; Manufacturer: National Semiconductor; CompType: Switcher; PackageTopMarking: NSUZXYTT*L26001*QMXA; PowerWise: N; Published: 29-May-2009; DatasheetVersion: Apr-2009; PackageVersion: revA, Apr-2003; PackageReference: MXA16A; Publisher: Altium Limited; PackageDescription: Molded TSSOP, Jedec, Exposed Pad, 5.0 x 4.4 x 0.9mm Body,16 Lead, 0.65mm Pitch; RoHS: Y; PinCount: 16; Code_JEDEC: MO-153-ABT; ComponentLink1Description: LM26001 Datasheet; ComponentLink1URL: http://www.national.com/ds/LM/LM26001.pdf; ComponentLink2Description: LM26001 Web Page; ComponentLink2URL: http://www.national.com/pf/LM/LM26001.html; ComponentLink3Description: MXA16A Package Page; ComponentLink3URL: http://www.national.com/packaging/folders/mxa16a.html
footprint MXA16A_N (TSOP, 16-Leads, Body 5x4.4mm, Pitch 0.65mm, Exposed Pad, IPC Medium Density)
footprint MXA16A_L (TSOP, 16-Leads, Body 5x4.4mm, Pitch 0.65mm, Exposed Pad, IPC High Density)
footprint MXA16A_M (TSOP, 16-Leads, Body 5x4.4mm, Pitch 0.65mm, Exposed Pad, IPC Low Density)
pins: 1 VIN (power), 2 VIN (power), 3 PGOOD (oc), 4 EN (in), 5 SS (in), 6 COMP, 7 FB (in), 8 GND (power), 9 FREQ (in), 10 FPWM (in), 11 SYNC, 12 VBIAS (in), 13 VDD (power), 14 BOOT, 15 SW (power), 16 SW (power), 17 DAP (power)

## LM26003MH
designator U?
3A Switching Regulator with High Efficiency Sleep Mode; PartNumber: LM26003MH; Manufacturer: National Semiconductor; CompType: Switcher; PackageTopMarking: NSUZXYTT*LM26003*MH; PowerWise: Y; Published: 4-Dec-2008; DatasheetVersion: Mar-2009; PackageVersion: revC, Jul-2006; PackageReference: MXA20A; Publisher: Altium Limited; PackageDescription: Molded TSSOP, Jedec, 6.5 x 4.4 x 0.9mm Body, 20 Lead, 0.65mm Pitch, Exposed Pad; RoHS: Y; PinCount: 20; DigiKeyPartNumber: LM26003MH/NOPB-ND; Code_JEDEC: MO-153-ACT; ComponentLink1Description: LM26003 Datasheet; ComponentLink1URL: http://www.national.com/ds/LM/LM26003.pdf; ComponentLink2Description: LM26003 Web Page; ComponentLink2URL: http://www.national.com/pf/LM/LM26003.html; ComponentLink3Description: MXA20A Package Drawing; ComponentLink3URL: http://www.national.com/packaging/folders/mxa20a.html
footprint MXA20A_N (TSOP, 20-Leads, Body 6.5x4.4mm, Pitch 0.65mm, Exposed Pad, IPC Medium Density)
footprint MXA20A_L (TSOP, 20-Leads, Body 6.5x4.4mm, Pitch 0.65mm, Exposed Pad, IPC High Density)
footprint MXA20A_M (TSOP, 20-Leads, Body 6.5x4.4mm, Pitch 0.65mm, Exposed Pad, IPC Low Density)
pins: 1 VIN (power), 2 VIN (power), 3 VIN (power), 4 AVIN (power), 5 PGOOD (oc), 6 EN (in), 7 SS (in), 8 COMP, 9 FB (in), 10 AGND (power), 11 PGND (power), 12 FREQ (in), 13 FPWM (in), 14 SYNC, 15 VBIAS (in), 16 VDD (power), 17 BOOT, 18 SW (power), 19 SW (power), 20 SW (power), 21 DAP (power)

## LM26003QMH
designator U?
3A Switching Regulator with High Efficiency Sleep Mode; PartNumber: LM26003QMH; Manufacturer: National Semiconductor; CompType: Switcher; PackageTopMarking: NSUZXYTT*LM26003*QMH; PowerWise: N; Published: 29-May-2009; DatasheetVersion: Mar-2009; PackageVersion: revC, Jul-2006; PackageReference: MXA20A; Publisher: Altium Limited; PackageDescription: Molded TSSOP, Jedec, 6.5 x 4.4 x 0.9mm Body, 20 Lead, 0.65mm Pitch, Exposed Pad; RoHS: Y; PinCount: 20; Code_JEDEC: MO-153-ACT; ComponentLink1Description: LM26003 Datasheet; ComponentLink1URL: http://www.national.com/ds/LM/LM26003.pdf; ComponentLink2Description: LM26003 Web Page; ComponentLink2URL: http://www.national.com/pf/LM/LM26003.html; ComponentLink3Description: MXA20A Package Page; ComponentLink3URL: http://www.national.com/packaging/folders/mxa20a.html
footprint MXA20A_N (TSOP, 20-Leads, Body 6.5x4.4mm, Pitch 0.65mm, Exposed Pad, IPC Medium Density)
footprint MXA20A_L (TSOP, 20-Leads, Body 6.5x4.4mm, Pitch 0.65mm, Exposed Pad, IPC High Density)
footprint MXA20A_M (TSOP, 20-Leads, Body 6.5x4.4mm, Pitch 0.65mm, Exposed Pad, IPC Low Density)
pins: 1 VIN (power), 2 VIN (power), 3 VIN (power), 4 AVIN (power), 5 PGOOD (oc), 6 EN (in), 7 SS (in), 8 COMP, 9 FB (in), 10 AGND (power), 11 PGND (power), 12 FREQ (in), 13 FPWM (in), 14 SYNC, 15 VBIAS (in), 16 VDD (power), 17 BOOT, 18 SW (power), 19 SW (power), 20 SW (power), 21 DAP (power)

## LM26400YMH
designator U?
Dual 2A, 500kHz Wide Input Range Buck Regulator; PartNumber: LM26400YMH; Manufacturer: National Semiconductor; CompType: Switcher; PackageTopMarking: NSUZXYTT*L26400*YMH; PowerWise: N; Published: 4-Dec-2008; DatasheetVersion: Aug-2007; PackageVersion: revA, Apr-2003; PackageReference: MXA16A; Publisher: Altium Limited; PackageDescription: Molded TSSOP, Jedec, Exposed Pad, 5.0 x 4.4 x 0.9mm Body,16 Lead, 0.65mm Pitch; RoHS: Y; PinCount: 16; DigiKeyPartNumber: LM26400YMH-ND; Code_JEDEC: MO-153-ABT; ComponentLink1Description: LM26400Y Datasheet; ComponentLink1URL: http://www.national.com/ds/LM/LM26400Y.pdf; ComponentLink2Description: LM26400Y Web Page; ComponentLink2URL: http://www.national.com/pf/LM/LM26400Y.html; ComponentLink3Description: MXA16A Package Page; ComponentLink3URL: http://www.national.com/packaging/folders/mxa16a.html
footprint MXA16A_N (TSOP, 16-Leads, Body 5x4.4mm, Pitch 0.65mm, Exposed Pad, IPC Medium Density)
footprint MXA16A_L (TSOP, 16-Leads, Body 5x4.4mm, Pitch 0.65mm, Exposed Pad, IPC High Density)
footprint MXA16A_M (TSOP, 16-Leads, Body 5x4.4mm, Pitch 0.65mm, Exposed Pad, IPC Low Density)
pins: 1 FB1 (in), 2 SS1 (in), 3 EN1 (in), 4 AVIN (power), 5 GND (power), 6 EN2 (in), 7 SS2 (in), 8 FB2 (in), 9 BST2, 10 SW2 (power), 11 PVIN (power), 12 PVIN (power), 13 PVIN (power), 14 PVIN (power), 15 SW1 (power), 16 BST1, 17 DAP (power)

## LM26400YSD
designator U?
Dual 2A, 500kHz Wide Input Range Buck Regulator; PartNumber: LM26400YSD; Manufacturer: National Semiconductor; CompType: Switcher; PackageTopMarking: NS*UZXYTT*L26400Y; PowerWise: N; Published: 4-Dec-2008; DatasheetVersion: Aug-2007; PackageVersion: revA, May-2003; PackageReference: SDA16A; Publisher: Altium Limited; PackageDescription: LLP, Plastic, Dual, 5 x 5 x 0.8mm Body,16 Lead, 0.5mm Pitch, No Pullback; RoHS: Y; PinCount: 16; DigiKeyPartNumber: LM26400YSDCT-ND; ComponentLink1Description: LM26400Y Datasheet; ComponentLink1URL: http://www.national.com/ds/LM/LM26400Y.pdf; ComponentLink2Description: LM26400Y Web Page; ComponentLink2URL: http://www.national.com/pf/LM/LM26400Y.html; ComponentLink3Description: SDA16A Package Page; ComponentLink3URL: http://www.national.com/packaging/folders/sda16a.html
footprint SDA16A (SON, 16-Leads, Body 5x5mm, Pitch 0.5mm, NSC Recommended)
pins: 1 FB1 (in), 2 SS1 (in), 3 EN1 (in), 4 AVIN (power), 5 GND (power), 6 EN2 (in), 7 SS2 (in), 8 FB2 (in), 9 BST2, 10 SW2 (power), 11 PVIN (power), 12 PVIN (power), 13 PVIN (power), 14 PVIN (power), 15 SW1 (power), 16 BST1, 17 DAP (power)

## LM26480SQ-AA
designator U?
Externally Programmable Dual High-Current Step-Down DC/DC and Dual Linear Regulators; PartNumber: LM26480SQ-AA; Manufacturer: National Semiconductor; CompType: Switcher; PackageTopMarking: NS*UZXYTT*26480AA; Published: 4-Dec-2008; DatasheetVersion: Sep-2008; PackageVersion: revB, Aug-2003; PackageReference: SQA24A; Publisher: Altium Limited; PackageDescription: LLP, Plastic, Quad, 4 x 4 x 0.8mm Body, 24 Lead, 0.5mm Pitch, No Pullback; RoHS: Y; PinCount: 24; DigiKeyPartNumber: LM26480SQ-AAEV-ND; Code_JEDEC: MO-220-WGGD-6; ComponentLink1Description: LM26480 Datasheet; ComponentLink1URL: http://www.national.com/ds/LM/LM26480.pdf; ComponentLink2Description: LM26480 Web Page; ComponentLink2URL: http://www.national.com/pf/LM/LM26480.html; ComponentLink3Description: SQA24A Package Drawing; ComponentLink3URL: http://www.national.com/packaging/folders/sqa24a.html
footprint SQA24A (QFN, 24-Leads, Body 4x4mm, Pitch 0.5mm, NSC Recommended)
pins: 1 VINLDO12 (power) "Analog Power for Internal Functions (VREF, BIAS, I2C, Logic)", 2 SYNC (in) "Frequency Synchronization pin.", 3 nPOR (oc) "nPOR Power on reset pin for both Buck1 and Buck 2.", 4 GND_SW1 (power) "Buck1 NMOS Power Ground", 5 SW1 (out) "Buck1 switcher output pin", 6 VIN1 (power) "Power in from either DC source or Battery to Buck1", 7 ENSW1 (in) "Enable Pin for Buck1 switcher, a logic HIGH enables Buck1. Pin cannot be left floating.", 8 FB1 (in) "Buck1 input feedback terminal", 9 GND_C (power) "Non-switching core ground pin", 10 AVDD (power) "Analog Power for Buck converters", 11 FB2 (in) "Buck2 input feedback terminal", 12 ENSW2 (in) "Enable Pin for Buck2 switcher, a logic HIGH enables Buck2. Pin cannot be left floating.", 13 VIN2 (power) "Power in from either DC source or Battery to Buck2", 14 SW2 (out) "Buck2 switcher output pin", 15 GND_SW2 (power) "Buck2 NMOS", 16 ENLDO2 (in) "LDO2 enable pin, a logic HIGH enables LDO2. Pin cannot be left floating.", 17 ENLDO1 (in) "LDO1 enable pin, a logic HIGH enables LDO1. Pin cannot be left floating.", 18 GND_L (power) "LDO ground", 19 VINLDO1 (power) "Power in from either DC source or battery to LDO1", 20 LDO1 (out) "LDO1 Output", 21 FBL1 (in) "LDO1 Feedback Terminal", 22 FBL2 (in) "LDO2 Feedback Terminal", 23 LDO2 (out) "LDO Output", 24 VINLDO2 (power) "Power in from either DC source or battery to LDO2.", 25 DAP (power)

## LM27212SQ
designator U?
Two-Phase Current-Mode Hysteretic Buck Controller; PartNumber: LM27212SQ; Manufacturer: National Semiconductor; CompType: Switcher; PackageTopMarking: NS*UZXYTT*27212SQ; Published: 4-Dec-2008; DatasheetVersion: Mar-2006; PackageVersion: revA, May-2003; PackageReference: SQA48A; Publisher: Altium Limited; PackageDescription: LLP, Plastic, Quad, 7 x 7 x 0.8mm Body, 48 Lead, 0.5mm Pitch, No Pullback; RoHS: Y; PinCount: 48; DigiKeyPartNumber: LM27212SQCT-ND; Code_JEDEC: MO-220-WKKD-2; ComponentLink1Description: LM27212 Datasheet; ComponentLink1URL: http://www.national.com/ds/LM/LM27212.pdf; ComponentLink2Description: LM27212 Web Page; ComponentLink2URL: http://www.national.com/pf/LM/LM27212.html; ComponentLink3Description: SQA48A Package Drawing; ComponentLink3URL: http://www.national.com/packaging/folders/sqa48a.html
footprint SQA48A (QFN, 48-Leads, Body 7x7mm, Pitch 0.5mm, NSC Recommended)
pins: 1 VID4 (in), 2 VID5 (in), 3 STP_CPU# (in), 4 SLP (in), 5 VRON (in), 6 VREF (out), 7 VSLP (in), 8 VSTP (in), 9 VBOOT (in), 10 SGND (power), 11 VDAC (out), 12 P_Z1, 13 NC, 14 NC, 15 P_Z0, 16 TGND (power), 17 V1R7 (in), 18 SS (in), 19 PGOOD (oc), 20 XPOK (in), 21 SENSE (in), 22 CLK_EN# (oc), 23 NC, 24 NC, 25 VOVP (in), 26 CMPREF (in), 27 CMP2 (in), 28 CMP1 (in), 29 SYNC2 (out), 30 OUT2 (out), 31 DGND (power), 32 VDD (power), 33 OUT1 (out), 34 SYNC1 (out), 35 ILIMREF (in), 36 ILIM2 (in), 37 NC, 38 NC, 39 ILIM1 (in), 40 SRCK1 (in), 41 SW1 (in), 42 DE_EN# (in), 43 VID0 (in), 44 VID1 (in), 45 VID2 (in), 46 VID3 (in), 47 NC, 48 NC, 49 DAP (power)

## LM27213MTD
designator U?
Single Phase Hysteretic Buck Controller; PartNumber: LM27213MTD; Manufacturer: National Semiconductor; CompType: Switcher; PackageTopMarking: NSUZXYTT*27213MTD; Published: 4-Dec-2008; DatasheetVersion: Feb-2006; PackageVersion: revE, Apr-2003; PackageReference: MTD48; Publisher: Altium Limited; PackageDescription: Molded TSSOP, Jedec, 12.5 x 6.1 x 0.9mm Body, 48 Lead, 0.50mm Pitch; RoHS: Y; PinCount: 48; DigiKeyPartNumber: LM27213MTD-ND; Code_JEDEC: MO-153-ED; ComponentLink1Description: LM27213 Datasheet; ComponentLink1URL: http://www.national.com/ds/LM/LM27213.pdf; ComponentLink2Description: LM27213 Web Page; ComponentLink2URL: http://www.national.com/pf/LM/LM27213.html; ComponentLink3Description: MTD48 Package Drawing; ComponentLink3URL: http://www.national.com/packaging/folders/mtd48.html
footprint MTD48_N (TSSOP, 48-Leads, Body 12.5x6.1mm, Pitch 0.5mm, IPC Medium Density)
footprint MTD48_L (TSSOP, 48-Leads, Body 12.5x6.1mm, Pitch 0.5mm, IPC High Density)
footprint MTD48_M (TSSOP, 48-Leads, Body 12.5x6.1mm, Pitch 0.5mm, IPC Low Density)
pins: 1 CBOOT, 2 HG (out), 3 SW (in), 4 NC, 5 SRCK (in), 6 NC, 7 ILIM (in), 8 ILIMREF (in), 9 CMP (in), 10 CMPREF (in), 11 VREF (out), 12 CLK_EN# (oc), 13 DGND (power), 14 PGOOD (oc), 15 XPOK (in), 16 SENSE (in), 17 VOVP (in), 18 P_Z2, 19 P_Z1, 20 NC, 21 NC, 22 P_Z0, 23 SGND (power), 24 VDD (power), 25 SS (in), 26 V1R7 (in), 27 VBOOT (in), 28 VSLP (in), 29 NC, 30 NC, 31 VDAC (out), 32 VSTP (in), 33 SLP (in), 34 STP_CPU# (in), 35 DE_EN# (in), 36 VID5 (in), 37 VID4 (in), 38 VID3 (in), 39 VID2 (in), 40 VID1 (in), 41 VID0 (in), 42 VR_ON (in), 43 NC, 44 NC, 45 PGND (power), 46 NC, 47 LG (out), 48 PVDD (power)

## LM27213SQ
designator U?
Single Phase Hysteretic Buck Controller; PartNumber: LM27213SQ; Manufacturer: National Semiconductor; CompType: Switcher; PackageTopMarking: NS*UZXYTT*27213SQ; Published: 4-Dec-2008; DatasheetVersion: Feb-2006; PackageVersion: revA, May-2003; PackageReference: SQA48A; Publisher: Altium Limited; PackageDescription: LLP, Plastic, Quad, 7 x 7 x 0.8mm Body, 48 Lead, 0.5mm Pitch, No Pullback; RoHS: Y; PinCount: 48; DigiKeyPartNumber: LM27213SQ-ND; Code_JEDEC: MO-220-WKKD-2; ComponentLink1Description: LM27213 Datasheet; ComponentLink1URL: http://www.national.com/ds/LM/LM27213.pdf; ComponentLink2Description: LM27213 Web Page; ComponentLink2URL: http://www.national.com/pf/LM/LM27213.html; ComponentLink3Description: SQA48A Package Drawing; ComponentLink3URL: http://www.national.com/packaging/folders/sqa48a.html
footprint SQA48A (QFN, 48-Leads, Body 7x7mm, Pitch 0.5mm, NSC Recommended)
pins: 1 CBOOT, 2 HG (out), 3 SW (in), 4 NC, 5 SRCK (in), 6 NC, 7 ILIM (in), 8 ILIMREF (in), 9 CMP (in), 10 CMPREF (in), 11 VREF (out), 12 CLK_EN# (oc), 13 DGND (power), 14 PGOOD (oc), 15 XPOK (in), 16 SENSE (in), 17 VOVP (in), 18 P_Z2, 19 P_Z1, 20 NC, 21 NC, 22 P_Z0, 23 SGND (power), 24 VDD (power), 25 SS (in), 26 V1R7 (in), 27 VBOOT (in), 28 VSLP (in), 29 NC, 30 NC, 31 VDAC (out), 32 VSTP (in), 33 SLP (in), 34 STP_CPU# (in), 35 DE_EN# (in), 36 VID5 (in), 37 VID4 (in), 38 VID3 (in), 39 VID2 (in), 40 VID1 (in), 41 VID0 (in), 42 VR_ON (in), 43 NC, 44 NC, 45 PGND (power), 46 NC, 47 LG (out), 48 PVDD (power), 49 DAP (power)

## LM27222M
designator U?
High-Speed 4.5A Synchronous MOSFET Driver; PartNumber: LM27222M; Manufacturer: National Semiconductor; CompType: Switcher; PackageTopMarking: NSZXTT*27222*M; Published: 4-Dec-2008; DatasheetVersion: Mar-2006; PackageVersion: revL, Sep-2006; PackageReference: M08A; Publisher: Altium Limited; PackageDescription: SOIC Narrow, 4.9 x 3.9 x 1.45mm, 8 Lead, 1.27mm Pitch; RoHS: O; PinCount: 8; DigiKeyPartNumber: LM27222M-ND; Code_JEDEC: MS-012-AA; Code_IPC: SOIC127P600-8; ComponentLink1Description: LM27222 Datasheet; ComponentLink1URL: http://www.national.com/ds/LM/LM27222.pdf; ComponentLink2Description: LM27222 Web Page; ComponentLink2URL: http://www.national.com/pf/LM/LM27222.html; ComponentLink3Description: M08A Package Drawing; ComponentLink3URL: http://www.national.com/packaging/folders/m08a.html
footprint M08A_N (SOIC, 8-Leads, Body 4.9x3.9mm, Pitch 1.27mm, IPC Medium Density)
footprint M08A_L (SOIC, 8-Leads, Body 4.9x3.9mm, Pitch 1.27mm, IPC High Density)
footprint M08A_M (SOIC, 8-Leads, Body 4.9x3.9mm, Pitch 1.27mm, IPC Low Density)
pins: 1 SW (power), 2 HG (out), 3 CB (in), 4 IN (in), 5 LEN (in), 6 VCC (power), 7 LG (out), 8 GND (power)